# Altium footprint library 29197.PcbLib: 67 footprints (part 1 of 5)
Each footprint in its own frame and in the unit in brackets; x right, y up, seen from the top. Pads: shape width x height; smd on the part's side, far side on the other; paste and mask are expansions set on the pad; w line width, h text height; cw(c..) or ccw(c..) is an arc to the next point about the centre after c.
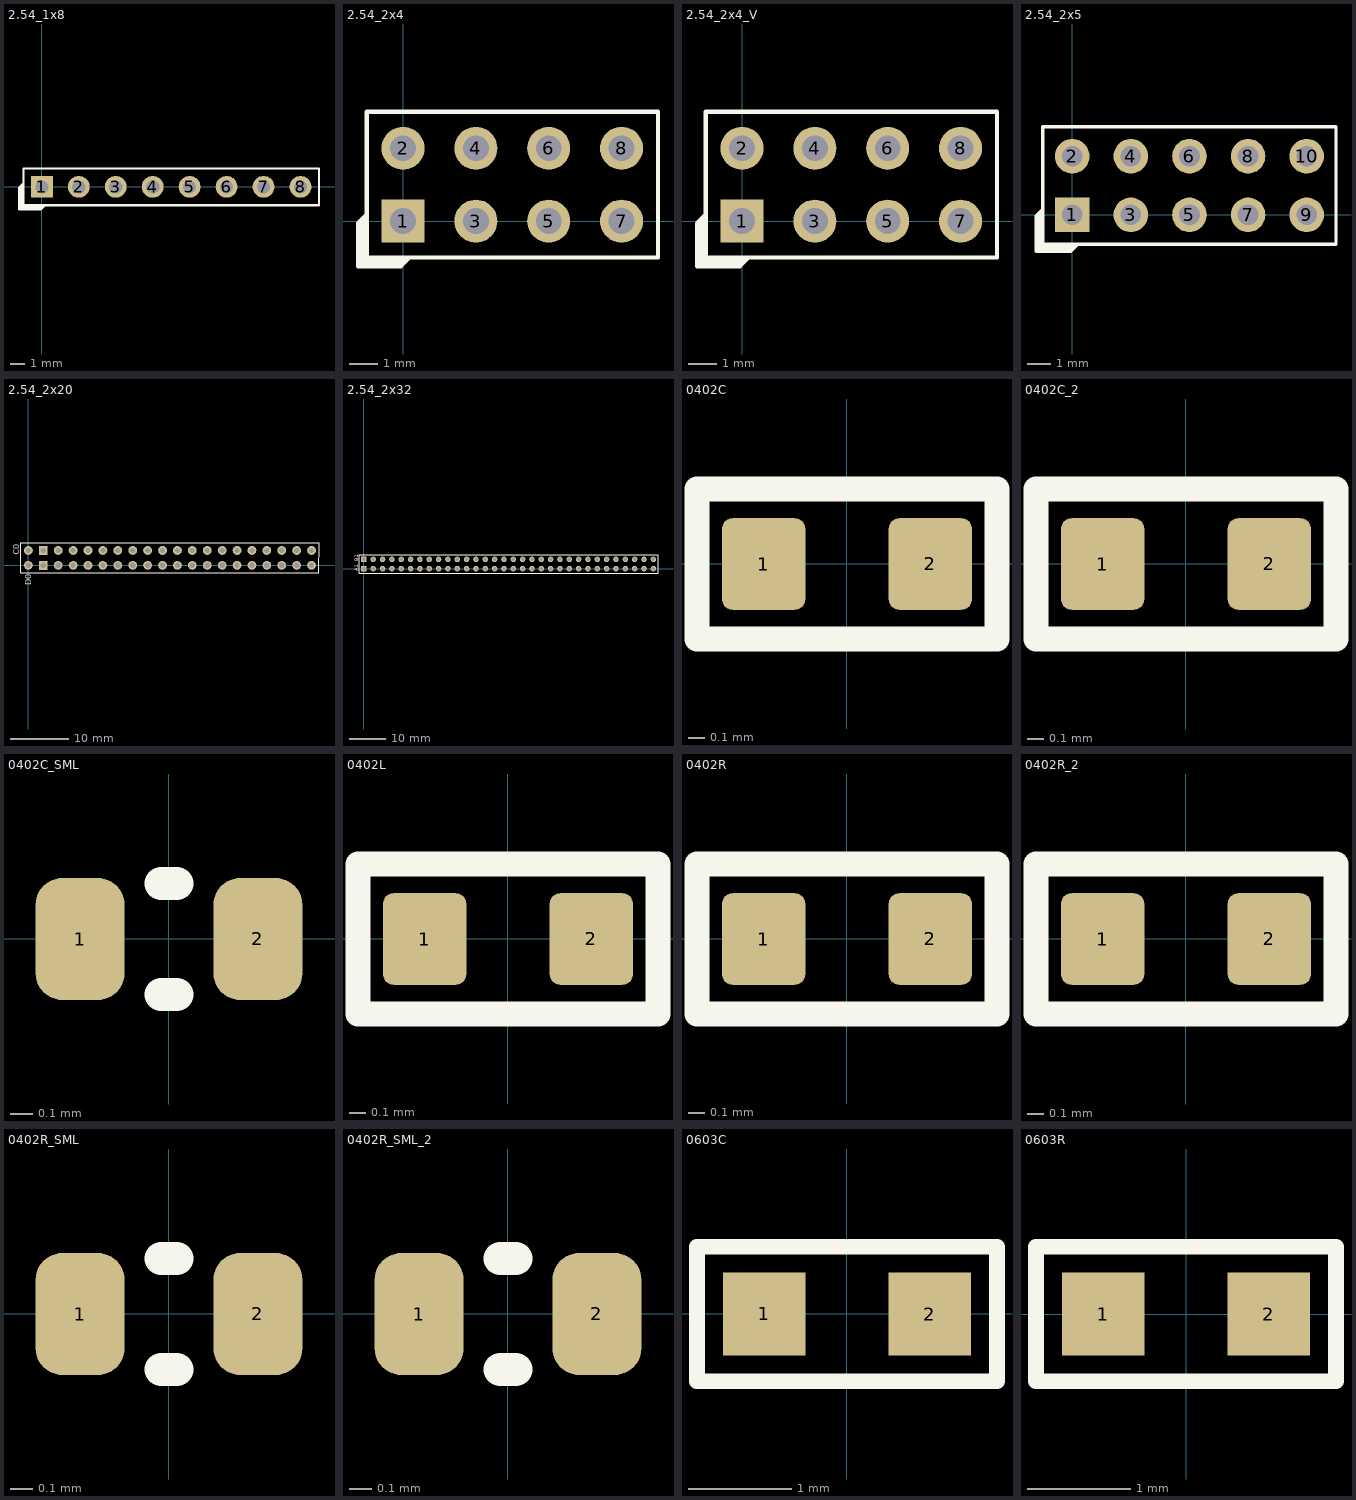
[diagram p0: the footprints below, top view; thin cyan lines are the x and y axes]

## 2.54_1x8 [mm]
pads (8):
  rect 1.5x1.5 hole 0.9: 1(0,0)
  round 1.5 hole 0.9: 2(2.54,0) 3(5.08,0) 4(7.62,0) 5(10.16,0) 6(12.7,0) 7(15.24,0) 8(17.78,0)
Top Overlay:
  region: -1.27,0.23 -1.27,-1.27 0.23,-1.27 -0.07,-1.57 -1.57,-1.57 -1.57,-0.07
  lines w0.15: -1.27,0.23 -1.57,-0.07 -1.57,-1.57 -0.07,-1.57 0.23,-1.27 ; -1.27,-1.27 -1.27,1.27 3.81,1.27 8.89,1.27 13.97,1.27 19.05,1.27 19.05,-1.27 13.97,-1.27 8.89,-1.27 3.81,-1.27 -1.27,-1.27
3D body "TSW-102-07-X-S.step": height 8.41, standoff -2.51, extent 13.97,-1.27 19.05,1.27
3D body "TSW-102-07-X-S.step": height 8.41, standoff -2.51, extent 8.89,-1.27 13.97,1.27
3D body "TSW-102-07-X-S.step": height 8.41, standoff -2.51, extent 3.81,-1.27 8.89,1.27
3D body "TSW-102-07-X-S.step": height 8.41, standoff -2.51, extent -1.27,-1.27 3.81,1.27

## 2.54_2x4 [mm]
pads (8):
  rect 1.5x1.5 hole 0.9: 1(0,0)
  round 1.5 hole 0.9: 2(0,2.54) 3(2.54,0) 4(2.54,2.54) 5(5.08,0) 6(5.08,2.54) 7(7.62,0) 8(7.62,2.54)
Top Overlay:
  region: -1.27,0.23 -1.27,-1.27 0.23,-1.27 -0.07,-1.57 -1.57,-1.57 -1.57,-0.07
  lines w0.15: -1.27,0.23 -1.57,-0.07 -1.57,-1.57 -0.07,-1.57 0.23,-1.27 ; -1.27,-1.27 1.27,-1.27 3.81,-1.27 6.35,-1.27 8.89,-1.27 8.89,3.81 6.35,3.81 3.81,3.81 1.27,3.81 -1.27,3.81 -1.27,-1.27
3D body "TSW-104-22-G-D-RA.stp": height 5.54, standoff -4.85, extent -1.28,-0.331 8.88,12.432

## 2.54_2x4_V [mm]
pads (8):
  rect 1.5x1.5 hole 0.9: 1(0,0)
  round 1.5 hole 0.9: 2(0,2.54) 3(2.54,0) 4(2.54,2.54) 5(5.08,0) 6(5.08,2.54) 7(7.62,0) 8(7.62,2.54)
Top Overlay:
  region: -1.27,0.23 -1.27,-1.27 0.23,-1.27 -0.07,-1.57 -1.57,-1.57 -1.57,-0.07
  lines w0.15: -1.27,0.23 -1.57,-0.07 -1.57,-1.57 -0.07,-1.57 0.23,-1.27 ; -1.27,-1.27 1.27,-1.27 3.81,-1.27 6.35,-1.27 8.89,-1.27 8.89,3.81 6.35,3.81 3.81,3.81 1.27,3.81 -1.27,3.81 -1.27,-1.27
3D body "TSW-102-07-X-S.step": height 8.41, standoff -2.51, extent -1.27,-1.27 1.27,3.81
3D body "TSW-102-07-X-S.step": height 8.41, standoff -2.51, extent 1.27,-1.27 3.81,3.81
3D body "TSW-102-07-X-S.step": height 8.41, standoff -2.51, extent 3.81,-1.27 6.35,3.81
3D body "TSW-102-07-X-S.step": height 8.41, standoff -2.51, extent 6.35,-1.27 8.89,3.81

## 2.54_2x5 [mm]
pads (10):
  rect 1.5x1.5 hole 0.9: 1(0,0)
  round 1.5 hole 0.9: 2(0,2.54) 3(2.54,0) 4(2.54,2.54) 5(5.08,0) 6(5.08,2.54) 7(7.62,0) 8(7.62,2.54) 9(10.16,0) 10(10.16,2.54)
Top Overlay:
  region: -1.27,0.23 -1.27,-1.27 0.23,-1.27 -0.07,-1.57 -1.57,-1.57 -1.57,-0.07
  lines w0.15: -1.27,0.23 -1.57,-0.07 -1.57,-1.57 -0.07,-1.57 0.23,-1.27 ; -1.27,-1.27 1.27,-1.27 3.81,-1.27 6.35,-1.27 8.89,-1.27 11.43,-1.27 11.43,3.81 8.89,3.81 6.35,3.81 3.81,3.81 1.27,3.81 -1.27,3.81 -1.27,-1.27
3D body "TSW-105-22-G-D-RA.stp": height 5.54, standoff -4.85, extent -1.275,-0.325 11.425,12.438

## 2.54_2x20 [mm]
pads (40):
  round 1.5 hole 0.9: C0(0,2.54) C2(5.08,2.54) C3(7.62,2.54) C4(10.16,2.54) C5(12.7,2.54) C6(15.24,2.54) C7(17.78,2.54) C8(20.32,2.54) C9(22.86,2.54) C10(25.4,2.54) C11(27.94,2.54) C12(30.48,2.54) C13(33.02,2.54) C14(35.56,2.54) C15(38.1,2.54) C16(40.64,2.54) C17(43.18,2.54) C18(45.72,2.54) C19(48.26,2.54) D0(0,0) D2(5.08,0) D3(7.62,0) D4(10.16,0) D5(12.7,0) D6(15.24,0) D7(17.78,0) D8(20.32,0) D9(22.86,0) D10(25.4,0) D11(27.94,0) D12(30.48,0) D13(33.02,0) D14(35.56,0) D15(38.1,0) D16(40.64,0) D17(43.18,0) D18(45.72,0) D19(48.26,0)
  rect 1.5x1.5 hole 0.9: C1(2.54,2.54) D1(2.54,0)
Top Overlay:
  lines w0.15: -1.27,-1.27 -1.27,3.81 1.27,3.81 3.81,3.81 6.35,3.81 8.89,3.81 11.43,3.81 13.97,3.81 16.51,3.81 19.05,3.81 21.59,3.81 24.13,3.81 26.67,3.81 29.21,3.81 31.75,3.81 34.29,3.81 36.83,3.81 39.37,3.81 41.91,3.81 44.45,3.81 46.99,3.81 49.53,3.81 49.53,-1.27 46.99,-1.27 44.45,-1.27 41.91,-1.27 39.37,-1.27 36.83,-1.27 34.29,-1.27 31.75,-1.27 29.21,-1.27 26.67,-1.27 24.13,-1.27 21.59,-1.27 19.05,-1.27 16.51,-1.27 13.97,-1.27 11.43,-1.27 8.89,-1.27 6.35,-1.27 3.81,-1.27 1.27,-1.27 -1.27,-1.27
  text "C0" at -1.6,1.8 h1
  text "D0" at 0.47,-3.35 h1
3D body "ESQ-120-14-G-D.stp": height 11.01, standoff -12.23, extent -1.524,-1.27 49.784,3.81

## 2.54_2x32 [mm]
pads (64):
  rect 1.5x1.5 hole 0.9: A1(0,0) B1(0,2.54)
  round 1.5 hole 0.9: A2(2.54,0) A3(5.08,0) A4(7.62,0) A5(10.16,0) A6(12.7,0) A7(15.24,0) A8(17.78,0) A9(20.32,0) A10(22.86,0) A11(25.4,0) A12(27.94,0) A13(30.48,0) A14(33.02,0) A15(35.56,0) A16(38.1,0) A17(40.64,0) A18(43.18,0) A19(45.72,0) A20(48.26,0) A21(50.8,0) A22(53.34,0) A23(55.88,0) A24(58.42,0) A25(60.96,0) A26(63.5,0) A27(66.04,0) A28(68.58,0) A29(71.12,0) A30(73.66,0) A31(76.2,0) A32(78.74,0) B2(2.54,2.54) B3(5.08,2.54) B4(7.62,2.54) B5(10.16,2.54) B6(12.7,2.54) B7(15.24,2.54) B8(17.78,2.54) B9(20.32,2.54) B10(22.86,2.54) B11(25.4,2.54) B12(27.94,2.54) B13(30.48,2.54) B14(33.02,2.54) B15(35.56,2.54) B16(38.1,2.54) B17(40.64,2.54) B18(43.18,2.54) B19(45.72,2.54) B20(48.26,2.54) B21(50.8,2.54) B22(53.34,2.54) B23(55.88,2.54) B24(58.42,2.54) B25(60.96,2.54) B26(63.5,2.54) B27(66.04,2.54) B28(68.58,2.54) B29(71.12,2.54) B30(73.66,2.54) B31(76.2,2.54) B32(78.74,2.54)
Top Overlay:
  lines w0.15: -1.27,-1.27 1.27,-1.27 3.81,-1.27 6.35,-1.27 8.89,-1.27 11.43,-1.27 13.97,-1.27 16.51,-1.27 19.05,-1.27 21.59,-1.27 24.13,-1.27 26.67,-1.27 29.21,-1.27 31.75,-1.27 34.29,-1.27 36.83,-1.27 39.37,-1.27 41.91,-1.27 44.45,-1.27 46.99,-1.27 49.53,-1.27 52.07,-1.27 54.61,-1.27 57.15,-1.27 59.69,-1.27 62.23,-1.27 64.77,-1.27 67.31,-1.27 69.85,-1.27 72.39,-1.27 74.93,-1.27 77.47,-1.27 80.01,-1.27 80.01,3.81 77.47,3.81 74.93,3.81 72.39,3.81 69.85,3.81 67.31,3.81 64.77,3.81 62.23,3.81 59.69,3.81 57.15,3.81 54.61,3.81 52.07,3.81 49.53,3.81 46.99,3.81 44.45,3.81 41.91,3.81 39.37,3.81 36.83,3.81 34.29,3.81 31.75,3.81 29.21,3.81 26.67,3.81 24.13,3.81 21.59,3.81 19.05,3.81 16.51,3.81 13.97,3.81 11.43,3.81 8.89,3.81 6.35,3.81 3.81,3.81 1.27,3.81 -1.27,3.81 -1.27,-1.27
  text "B1" at -1.6,1.99 h1
  text "A1" at -1.6,-0.65 h1
3D body "ESQ-132-14-G-D.stp": height 11.01, standoff -12.23, extent -1.524,-1.27 80.264,3.81

## 0402C [mm] "Chip Capacitor, 2-Leads, Body 1.0x0.5mm, IPC Medium Density"
height 0.6
pads (2):
  rrect25% 0.5x0.55 smd paste-2: 1(-0.5,0) 2(0.5,0)
Top Overlay:
  lines w0.15: -0.9,-0.45 -0.9,0.45 0.9,0.45 0.9,-0.45 -0.9,-0.45
Top Paste:
  region: 0.25,0 0.4,0.25 0.675,0.25 0.725,0.2 0.725,-0.2 0.675,-0.25 0.4,-0.25
  region: -0.25,0 -0.4,-0.25 -0.675,-0.25 -0.725,-0.2 -0.725,0.2 -0.675,0.25 -0.4,0.25
  lines w0.1: -0.675,-0.2 -0.675,0.2 ; 0.675,-0.2 0.675,0.2
3D body: height 0.5, standoff 0, extent -0.5,-0.25 -0.25,0.25
3D body: height 0.5, standoff 0, extent 0.25,-0.25 0.5,0.25
3D body: height 0.5, standoff 0, extent -0.25,-0.25 0.25,0.25

## 0402C_2 [mm]
pads (2):
  rrect25% 0.5x0.55 smd paste-2: 1(-0.5,0) 2(0.5,0)
Top Overlay:
  lines w0.15: -0.9,-0.45 0.9,-0.45 0.9,0.45 -0.9,0.45 -0.9,-0.45
Top Paste:
  region: -0.25,0 -0.4,-0.25 -0.675,-0.25 -0.725,-0.2 -0.725,0.2 -0.675,0.25 -0.4,0.25
  region: 0.25,0 0.4,0.25 0.675,0.25 0.725,0.2 0.725,-0.2 0.675,-0.25 0.4,-0.25
  lines w0.1: -0.675,-0.2 -0.675,0.2 ; 0.675,-0.2 0.675,0.2
3D body: height 0.5, standoff 0, extent -0.25,-0.25 0.25,0.25
3D body: height 0.5, standoff 0, extent 0.25,-0.25 0.5,0.25
3D body: height 0.5, standoff 0, extent -0.5,-0.25 -0.25,0.25

## 0402C_SML [mm] "Chip Capacitor, 2-Leads, Body 1.0x0.5mm, IPC Medium Density"
height 0.6
pads (2):
  rrect60% 0.4x0.55 smd paste-2: 1(-0.4,0) 2(0.4,0)
Top Overlay:
  lines w0.15: -0.035,-0.25 0.035,-0.25 ; -0.035,0.25 0.035,0.25
Top Paste:
  region: -0.22,0 -0.35,-0.25 -0.47,-0.25 -0.575,-0.145 -0.575,0.145 -0.47,0.25 -0.35,0.25
  region: 0.22,0 0.35,0.25 0.47,0.25 0.575,0.145 0.575,-0.145 0.47,-0.25 0.35,-0.25
  lines w0.2: -0.475,-0.15 -0.475,0.15 ; 0.475,-0.15 0.475,0.15
3D body: height 0.5, standoff 0, extent -0.4,-0.25 -0.15,0.25
3D body: height 0.5, standoff 0, extent 0.15,-0.25 0.4,0.25
3D body: height 0.5, standoff 0, extent -0.25,-0.25 0.25,0.25

## 0402L [mm] "Chip Capacitor, 2-Leads, Body 1.0x0.5mm, IPC Medium Density"
height 0.6
pads (2):
  rrect25% 0.5x0.55 smd paste-2: 1(-0.5,0) 2(0.5,0)
Top Overlay:
  lines w0.15: -0.9,-0.45 0.9,-0.45 0.9,0.45 -0.9,0.45 -0.9,-0.45
Top Paste:
  region: 0.25,0 0.4,0.25 0.675,0.25 0.725,0.2 0.725,-0.2 0.675,-0.25 0.4,-0.25
  region: -0.25,0 -0.4,-0.25 -0.675,-0.25 -0.725,-0.2 -0.725,0.2 -0.675,0.25 -0.4,0.25
  lines w0.1: -0.675,-0.2 -0.675,0.2 ; 0.675,-0.2 0.675,0.2
3D body: height 0.48, standoff 0.03, extent -0.25,-0.225 0.25,0.225
3D body: height 0.5, standoff 0, extent 0.25,-0.25 0.5,0.25
3D body: height 0.5, standoff 0, extent -0.5,-0.25 -0.25,0.25

## 0402R [mm] "Chip Capacitor, 2-Leads, Body 1.0x0.5mm, IPC Medium Density"
height 0.6
pads (2):
  rrect25% 0.5x0.55 smd paste-2: 1(-0.5,0) 2(0.5,0)
Top Overlay:
  lines w0.15: -0.9,-0.45 -0.9,0.45 0.9,0.45 0.9,-0.45 -0.9,-0.45
Top Paste:
  region: -0.25,0 -0.4,-0.25 -0.675,-0.25 -0.725,-0.2 -0.725,0.2 -0.675,0.25 -0.4,0.25
  region: 0.25,0 0.4,0.25 0.675,0.25 0.725,0.2 0.725,-0.2 0.675,-0.25 0.4,-0.25
  lines w0.1: -0.675,-0.2 -0.675,0.2 ; 0.675,-0.2 0.675,0.2
3D body: height 0.25, standoff 0.23, extent -0.225,-0.225 0.225,0.225
3D body: height 0.25, standoff 0, extent -0.5,-0.25 -0.25,0.25
3D body: height 0.25, standoff 0, extent 0.25,-0.25 0.5,0.25
3D body: height 0.23, standoff 0.03, extent -0.25,-0.25 0.25,0.25

## 0402R_2 [mm]
pads (2):
  rrect25% 0.5x0.55 smd paste-2: 1(-0.5,0) 2(0.5,0)
Top Overlay:
  lines w0.15: -0.9,-0.45 -0.9,0.45 0.9,0.45 0.9,-0.45 -0.9,-0.45
Top Paste:
  region: -0.25,0 -0.4,-0.25 -0.675,-0.25 -0.725,-0.2 -0.725,0.2 -0.675,0.25 -0.4,0.25
  region: 0.25,0 0.4,0.25 0.675,0.25 0.725,0.2 0.725,-0.2 0.675,-0.25 0.4,-0.25
  lines w0.1: -0.675,-0.2 -0.675,0.2 ; 0.675,-0.2 0.675,0.2
3D body: height 0.25, standoff 0.23, extent -0.225,-0.225 0.225,0.225
3D body: height 0.25, standoff 0, extent -0.5,-0.25 -0.25,0.25
3D body: height 0.25, standoff 0, extent 0.25,-0.25 0.5,0.25
3D body: height 0.23, standoff 0.03, extent -0.25,-0.25 0.25,0.25

## 0402R_SML [mm] "Chip Capacitor, 2-Leads, Body 1.0x0.5mm, IPC Medium Density"
height 0.6
pads (2):
  rrect60% 0.4x0.55 smd paste-2: 1(-0.4,0) 2(0.4,0)
Top Overlay:
  lines w0.15: -0.035,-0.25 0.035,-0.25 ; -0.035,0.25 0.035,0.25
Top Paste:
  region: -0.22,0 -0.35,-0.25 -0.47,-0.25 -0.575,-0.145 -0.575,0.145 -0.47,0.25 -0.35,0.25
  region: 0.22,0 0.35,0.25 0.47,0.25 0.575,0.145 0.575,-0.145 0.47,-0.25 0.35,-0.25
  lines w0.2: -0.475,-0.15 -0.475,0.15 ; 0.475,-0.15 0.475,0.15
3D body: height 0.23, standoff 0.03, extent -0.25,-0.25 0.25,0.25
3D body: height 0.25, standoff 0, extent 0.25,-0.25 0.5,0.25
3D body: height 0.25, standoff 0, extent -0.5,-0.25 -0.25,0.25
3D body: height 0.25, standoff 0.23, extent -0.225,-0.225 0.225,0.225

## 0402R_SML_2 [mm]
pads (2):
  rrect60% 0.4x0.55 smd paste-2: 1(-0.4,0) 2(0.4,0)
Top Overlay:
  lines w0.15: -0.035,-0.25 0.035,-0.25 ; -0.035,0.25 0.035,0.25
Top Paste:
  region: -0.22,0 -0.35,-0.25 -0.47,-0.25 -0.575,-0.145 -0.575,0.145 -0.47,0.25 -0.35,0.25
  region: 0.22,0 0.35,0.25 0.47,0.25 0.575,0.145 0.575,-0.145 0.47,-0.25 0.35,-0.25
  lines w0.2: -0.475,-0.15 -0.475,0.15 ; 0.475,-0.15 0.475,0.15
3D body: height 0.25, standoff 0, extent 0.25,-0.25 0.5,0.25
3D body: height 0.25, standoff 0.23, extent -0.225,-0.225 0.225,0.225
3D body: height 0.25, standoff 0, extent -0.5,-0.25 -0.25,0.25
3D body: height 0.23, standoff 0.03, extent -0.25,-0.25 0.25,0.25

## 0603C [mm]
height 2.438
pads (2):
  rect 0.8x0.8 smd paste-10: 1(-0.8,0) 2(0.8,0)
Top Overlay:
  lines w0.15: -1.45,-0.65 -1.45,0.65 1.45,0.65 1.45,-0.65 -1.45,-0.65
Top Paste:
  region: 1.175,-0.375 1.175,0.375 0.634,0.375 0.4,0 0.634,-0.375
  region: -1.175,0.375 -1.175,-0.375 -0.634,-0.375 -0.4,0 -0.634,0.375
3D body "0603C.STEP": height 1.02, standoff 0, extent -0.8,-0.405 0.8,0.405

## 0603R [mm]
pads (2):
  rect 0.8x0.8 smd paste-10: 1(-0.8,0) 2(0.8,0)
Top Overlay:
  lines w0.15: -1.45,-0.65 -1.45,0.65 1.45,0.65 1.45,-0.65 -1.45,-0.65
Top Paste:
  region: 1.175,-0.375 1.175,0.375 0.634,0.375 0.4,0 0.634,-0.375
  region: -1.175,0.375 -1.175,-0.375 -0.634,-0.375 -0.4,0 -0.634,0.375
3D body "0603R.STEP": height 0.45, standoff 0, extent -0.8,-0.4 0.8,0.4